# Altium footprint library AYF530465T.PcbLib: 1 footprints
Each footprint in its own frame and in the unit in brackets; x right, y up, seen from the top. Pads: shape width x height; smd on the part's side, far side on the other; paste and mask are expansions set on the pad; w line width, h text height; cw(c..) or ccw(c..) is an arc to the next point about the centre after c.
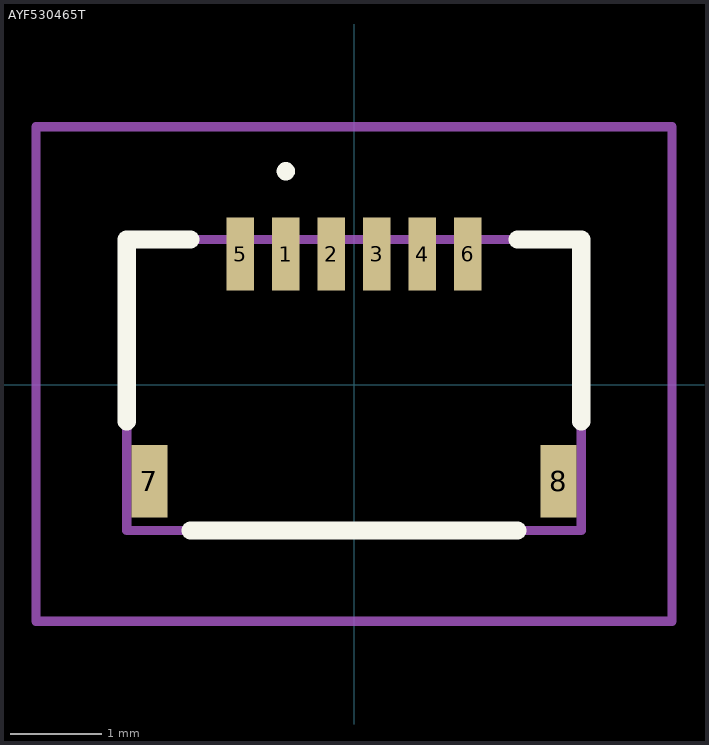
[diagram p0: the footprint, top view; thin cyan lines are the x and y axes]

## AYF530465T [mm]
pads (8):
  rect 0.3x0.8 smd: 1(-0.75,1.44) 2(-0.25,1.44) 3(0.25,1.44) 4(0.75,1.44) 5(-1.25,1.44) 6(1.25,1.44)
  rect 0.4x0.8 smd: 7(-2.25,-1.06) 8(2.25,-1.06)
Top Overlay:
  lines w0.1: -0.75,2.3 cw(c-0.75,2.35) -0.75,2.4 ; -0.75,2.3 -0.75,2.3 ; -0.75,2.3 ccw(c-0.75,2.35) -0.75,2.4 ; -0.75,2.4 -0.75,2.4
  lines w0.2: -2.5,-0.4 -2.5,1.6 -1.8,1.6 ; -1.8,-1.6 1.8,-1.6 ; 1.8,1.6 2.5,1.6 2.5,-0.4
Mechanical 15:
  lines w0.1: -2.5,-1.6 2.5,-1.6 2.5,1.6 -2.5,1.6 -2.5,-1.6
Mechanical 20:
  lines w0.1: -3.5,-2.6 3.5,-2.6 3.5,2.84 -3.5,2.84 -3.5,-2.6